# Altium schematic symbol library gsm_modules.SchLib: 1 symbol
Pins are listed as number, name and electrical type; pins without a type are passive.

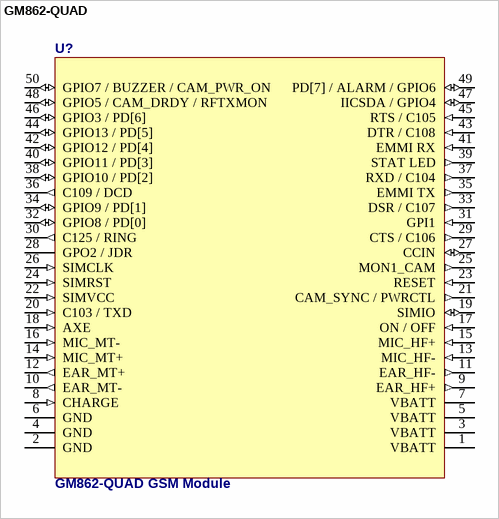
[diagram p0: symbol GM862-QUAD]

## GM862-QUAD
designator U?, comment GM862-QUAD GSM Module
Published: 02-Feb-2006; PackageReference: GM862
footprint GM862 (GM862 GSM Module)
pins: 1 VBATT (power) "Main power supply", 2 GND (power) "Ground", 3 VBATT (power) "Main power supply", 4 GND (power) "Ground", 5 VBATT (power) "Main power supply", 6 GND (power) "Ground", 7 VBATT (power) "Main power supply", 8 CHARGE (in) "Charger Input", 9 EAR_HF+ (out) "Handsfree ear signal output; phase+", 10 EAR_MT- (out) "Handset earphone signal output; phase-", 11 EAR_HF- (out) "Handsfree ear signal output; phase-", 12 EAR_MT+ (out) "Handset earphone signal output; phase+", 13 MIC_HF- (in) "Handsfree microphone signal input; phase-, nominal level 500 mVpp", 14 MIC_MT+ (in) "Handset microphone signal input; phase+, nominal level 1030 mVpp", 15 MIC_HF+ (in) "Handsfree microphone signal input; phase+, nominal level 500 mVpp", 16 MIC_MT- (in) "Handset microphone signal input; phase-, nominal level 1030 mVpp", 17 ON / OFF (in) "Input command for switched power ON or OFF (toggle command)", 18 AXE (in) "Handsfree switching", 19 SIMIO (io) "External SIM signal - Data I/O", 20 C103 / TXD (in) "Serial data input (TXD) from DTE (RX of Module)", 21 CAM_SYNC / PWRCTL (out) "Module Status ON indication (Signal output for power on/off control of external devices) / Camera Interface. Pull up is 820 ohm", 22 SIMVCC (in) "External SIM signal - Power", 23 RESET (in) "Reset input", 24 SIMRST (in) "Externat SIM signal - Reset", 25 MON1_CAM (out) "Camera Interface", 26 SIMCLK (in) "External SIM signal - Clock", 27 CCIN (io) "External SIM signal - Presence (active low)", 28 GPO2 / JDR (oc) "General Purpose output (open collector) / Camera Interface / JDR", 29 CTS / C106 (out) "Output for Clear to send signal (CTS) to DTE", 30 C125 / RING (out) "Output for Ring indicator signal (RI) to DTE", 31 GPI1 (in) "General Purpose input Buffered", 32 GPIO8 / PD[0] (io) "General Purpose I/O / Camera Interface", 33 DSR / C107 (out) "Output for Data set ready signal (DSR) to DTE", 34 GPIO9 / PD[1] (io) "General Purpose I/O / Camera Interface", 35 EMMI TX (out) "TX Data for debug monitor (1)", 36 C109 / DCD (out) "Output for Data carrier detect signal (DCD) to DTE", 37 RXD / C104 (out) "serial data output to DTE (TX of Module)", 38 GPIO10 / PD[2] (io) "General Purpose I/O / Camera Interface", 39 STAT LED (out) "Status indicator led", 40 GPIO11 / PD[3] (io) "General Purpose I/O / Camera Interface", 41 EMMI RX (in) "RX Data for debug monitor (1)", 42 GPIO12 / PD[4] (io) "General Purpose I/O / Camera Interface", 43 DTR / C108 (in) "Input for Data terminal ready signal (DTR) from DTE", 44 GPIO13 / PD[5] (io) "General Purpose I/O / Camera Interface", 45 RTS / C105 (in) "Input fo Request to send signal (RTS) from DTE", 46 GPIO3 / PD[6] (io) "General Purpose I/O / Camera Interface", 47 IICSDA / GPIO4 (io) "General Purpose I/O / Camera Interface", 48 GPIO5 / CAM_DRDY / RFTXMON (io) "General Purpose I/O / Camera Interface / RF Transmission Monitor", 49 PD[7] / ALARM / GPIO6 (io) "General Purpose I/O / ALARM output / Camera Interface", 50 GPIO7 / BUZZER / CAM_PWR_ON (io) "General Purpose I/O / BUZZER output Pin / Camera Interface"